# Altium schematic symbol library Napelem_Inverter.SchLib: 99 symbols (part 1 of 2)
Pins are listed as number, name and electrical type; pins without a type are passive.

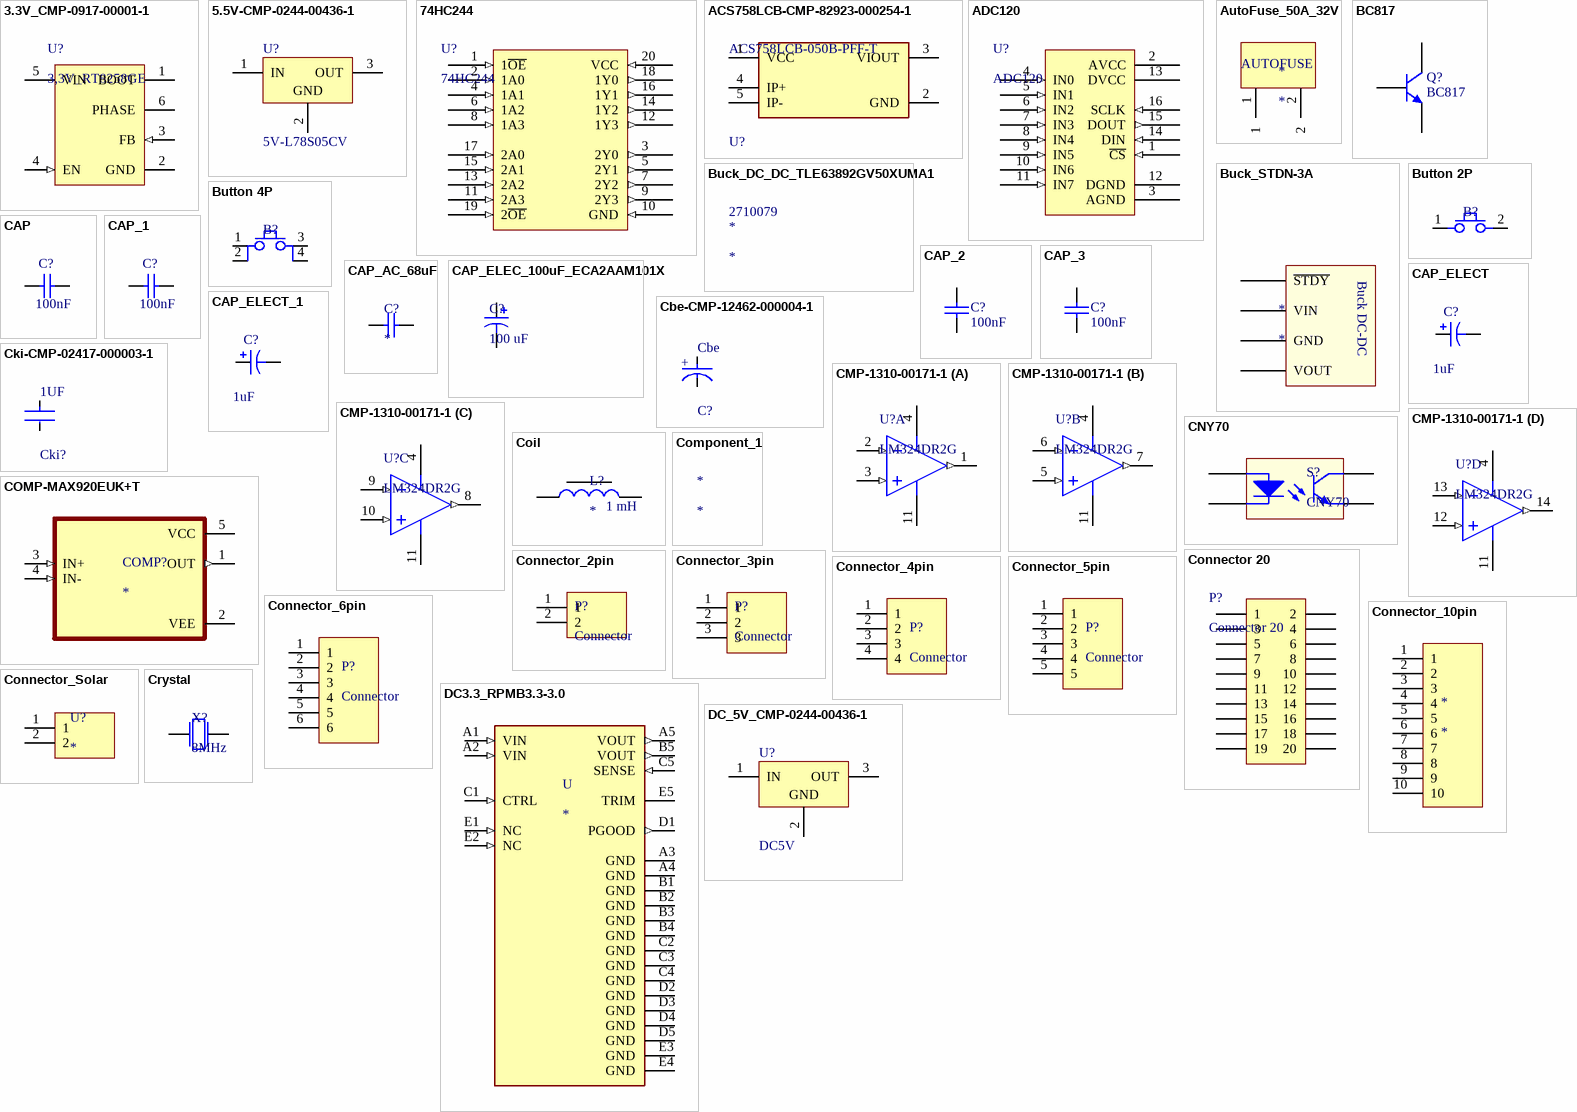
[diagram p0: symbols 3.3V_CMP-0917-00001-1 to DC_5V_CMP-0244-00436-1]

## 3.3V_CMP-0917-00001-1
designator U?, comment 3,3V_RT8258GE
1.2 A, 24 V, 700 kHz Step-Down Converter, -40 to 85 degC, 6-Pin SOT-23, RoHS; Manufacturer: Richtek Technology; Output Current: 1.2 A; Wide Operating Input Voltage Range: 4.5 to 24 V; Switch on Resistance: 0.3 Ohm; Fixed Switching Frequency: 700 kHz; Adjustable Output Voltage Range: 0.8 to 15 V; PackageReference: SOT-23-6; PartNumber: RT8258GE; PackageDescription: 6-Pin Small Outline Transistor, Body 2.8955 x 1.6 mm, Pitch 0.9395 mm; ComponentLink2URL: http://www.richtek.com/download_ds.jsp?s=420; ComponentLink1URL: http://www.richtek.com/; Mounting Technology: Surface Mount; RoHS: TRUE; ComponentLink1Description: Manufacturer URL; DatasheetVersion: Dec-11; Temperature Range: -40 to 85 degC; ComponentLink2Description: Datasheet
footprint RCHT-SOT-23-6_N (SOT23, 6-Leads, Body 3.1x1.8mm, Pitch 0.95mm, IPC Medium Density)
pins: 1 BOOT "Gate Driver Bootstrap Input Pin. Connect a 10nF or greater capacitor between PHASE and BOOT pins to supply the MOSFET driver.", 2 GND (power) "Ground Pin. This pin should be connected to the (-) terminal of the output capacitor and it should be kept away from the D1 and input capacitor for noise prevention.", 3 FB (in) "Output Voltage Feedback Input Pin. An external resistor divider from the output to GND tapped to the FB pin sets the output voltage. The value of the divider resistors also set loop bandwidth.", 4 EN (in) "Chip Enable (Active High). If the EN pin is open, it will be pulled to high by internal circuit.", 5 VIN (power) "Power Supply Input Pin. Bypass VIN to GND with a suitable large capacitor to prevent large voltage spikes from appearing at the input.", 6 PHASE (power) "Power Switching Output Pin. Connect this pin to the output inductor."

## 5.5V-CMP-0244-00436-1
designator U?, comment 5V-L78S05CV
2A Positive Voltage Regulator, 5V, 3-Pin TO-220; PackageVersion: ver3.0; ComponentLink2URL: http://www.st.com/internet/com/TECHNICAL_RESOURCES/TECHNICAL_LITERATURE/DATASHEET/CD00000449.pdf; ComponentLink1Description: Manufacturer URL; DatasheetVersion: 1/03/2010; PackageDescription: TO, Thru-Hole, Vertical, Heatsink Mounted; 3 In-Line Leads; Pitch 2.54 mm; ComponentLink2Description: Datasheet; ComponentLink1URL: http://www.st.com; ComponentLink3Description: Package Specification; PackageReference: TO220; ComponentLink3URL: http://www.st.com/internet/com/TECHNICAL_RESOURCES/TECHNICAL_LITERATURE/PACKAGE_INFORMATION/CD00004649.pdf
footprint TO220 (TO, Thru-Hole, Vertical, Heatsink Mounted; 3 In-Line Leads; Pitch 2.54 mm)
pins: 1 IN (power), 2 GND (power), 3 OUT (power)

## 74HC244
designator U?
Supplier: *; Reference: *; Name: *
footprint TSOP65P640X110-20N (TSOP, 20-Leads, Body 6,50x4,40mm, Pitch 0,65mm, IPC Medium Density)
pins: 1 1~{OE} (in), 2 1A0 (in), 3 2Y0 (out), 4 1A1 (in), 5 2Y1 (out), 6 1A2 (in), 7 2Y2 (out), 8 1A3 (in), 9 2Y3 (out), 10 GND (in), 11 2A3 (in), 12 1Y3 (out), 13 2A2 (in), 14 1Y2 (out), 15 2A1 (in), 16 1Y1 (out), 17 2A0 (in), 18 1Y0 (out), 19 2~{OE} (in), 20 VCC (in)

## ACS758LCB-CMP-82923-000254-1
designator U?, comment ACS758LCB-050B-PFF-T
SENSOR CURRENT HALL 50A AC/DC; Operating Supply Voltage: 5V; Max Supply Current: 13.5mA; Frequency: 120kHz; Quiescent Current: 10mA; Response Time: 4us; Sensitivity: 40mV/A; Output Current: 1mA; Linearity: 1%; Polarity: Bidirectional; Accuracy: 2%; Number of Channels: 1; Max Supply Voltage: 5.5V; Min Supply Voltage: 3V; Radiation Hardening: No; Packaging: Rail/Tube; Length: 10mm; Height: 7mm; Lead Free: Lead Free; Current Sensing: 50A; Number of Pins: 5; Min Operating Temperature: -40°C; RoHS Compliant: Yes; REACH SVHC: No SVHC; Max Operating Temperature: 150°C; Package Quantity: 34; Bandwidth: 120kHz; Mount: Through Hole; Width: 13mm; Series: -
footprint FP-CB-5-PFF-MFG
pins: 1 VCC (power), 2 GND (power), 3 VIOUT, 4 IP+, 5 IP-

## ADC120
designator U?
Supplier: *; Reference: *; Name: *
footprint TSOP65P640X120-16N (TSOP, 16-Leads, Body 5,00x4,40mm, Pitch 0,65mm, IPC Medium Density)
pins: 1 ~{CS} (in), 2 AVCC (power), 3 AGND (power), 4 IN0 (in), 5 IN1 (in), 6 IN2 (in), 7 IN3 (in), 8 IN4 (in), 9 IN5 (in), 10 IN6 (in), 11 IN7 (in), 12 DGND (power), 13 DVCC (power), 14 DIN (in), 15 DOUT (out), 16 SCLK (in)

## AutoFuse_50A_32V
designator *
Fuse Blade 1A 32V Socket 19.1 X 12.3 X 5.1mm Polyamide 66 Automotive UL; Manufacturer: Littelfuse; Manufacturer Part Number: 0287001.PXCN; Resistance: 123mR; Supplier 1: Digi-Key; Category: Fuses; Stock 1: 3381; Pricing 1: 1=0,29000, 5=0,28600, 10=0,27300, 50=0,24360, 100=0,22680, 250=0,20160, 500=0,16800, 1000=0,15960, 5000=0,12600 (USD); Mount: Holder; Number of Pins: 2; Color: Black; Housing Material: Polyamide; Min Operating Temperature: -40°C; Max Operating Temperature: 105°C; Current Rating: 1A; Package Quantity: 2000; Voltage Rating (DC): 32V; Packaging: Bulk; Voltage Rating: 32V; DC Cold Resistance: 123mR; Working Voltage: 32V; Fuse Current: 1A; Fuse Type: Automotive; Termination: Blade; Series: ATO®; Length: 19.1mm; Width: 5.1mm; Height: 0.484inch; Depth: 5.1mm; Size: 12.19mm; Radiation Hardening: No; REACH SVHC: Unknown; Approvals: UL; Lead Free: Lead Free; RoHS Compliant: Yes; ComponentLink1URL: https://datasheet.ciiva.com/30471/0900766b8128f542-30471621.pdf?src-supplier=RSComponents; ComponentLink1Description: https://datasheet.ciiva.com/30471/0900766b8128f542-30471621.pdf?src-supplier=RSComponents; ComponentLink2URL: https://datasheet.ciiva.com/7634/1714708-7634630.pdf?src-supplier=Element14; ComponentLink2Description: https://datasheet.ciiva.com/7634/1714708-7634630.pdf?src-supplier=Element14; ComponentLink3URL: https://datasheet.ciiva.com/7494/littelfuse-fuse-287-atof-cn-7494741.pdf?src-supplier=Digi-Key; ComponentLink3Description: https://datasheet.ciiva.com/7494/littelfuse-fuse-287-atof-cn-7494741.pdf?src-supplier=Digi-Key; ComponentLink4URL: https://datasheet.ciiva.com/14623/70241921-14623129.pdf?src-supplier=Allied+Electronics; ComponentLink4Description: https://datasheet.ciiva.com/14623/70241921-14623129.pdf?src-supplier=Allied+Electronics; ComponentLink5URL: https://datasheet.ciiva.com/14171/ato258-with-257-marking-eng-tds-14171963.pdf?src-supplier=Distrelec; ComponentLink5Description: https://datasheet.ciiva.com/14171/ato258-with-257-marking-eng-tds-14171963.pdf?src-supplier=Distrelec; ComponentLink6URL: http://datasheet.octopart.com/0287001.PXCN-Littelfuse-datasheet-38225814.pdf?src-supplier=Allied+Electronics; ComponentLink6Description: http://datasheet.octopart.com/0287001.PXCN-Littelfuse-datasheet-38225814.pdf?src-supplier=Allied+Electronics; ComponentLink7URL: http://datasheet.octopart.com/0287001.PXCN-Littelfuse-datasheet-26530133.pdf?src-supplier=Future+Electronics; ComponentLink7Description: http://datasheet.octopart.com/0287001.PXCN-Littelfuse-datasheet-26530133.pdf?src-supplier=Future+Electronics; ComponentLink8URL: http://datasheet.octopart.com/0287001.PXCN-Littelfuse-datasheet-11519250.pdf?src-supplier=Newark; ComponentLink8Description: http://datasheet.octopart.com/0287001.PXCN-Littelfuse-datasheet-11519250.pdf?src-supplier=Newark; ComponentLink9URL: http://datasheet.octopart.com/0287001.PXCN-Littelfuse-datasheet-11544327.pdf?src-supplier=Future+Electronics; ComponentLink9Description: http://datasheet.octopart.com/0287001.PXCN-Littelfuse-datasheet-11544327.pdf?src-supplier=Future+Electronics; ComponentLink10URL: http://datasheet.octopart.com/0287001.PXCN-Littelfuse-datasheet-14220655.pdf?src-supplier=Future+Electronics; ComponentLink10Description: http://datasheet.octopart.com/0287001.PXCN-Littelfuse-datasheet-14220655.pdf?src-supplier=Future+Electronics; ComponentLink11URL: http://datasheet.octopart.com/0287001.PXCN-Littelfuse-datasheet-17579844.pdf?src-supplier=TME; ComponentLink11Description: http://datasheet.octopart.com/0287001.PXCN-Littelfuse-datasheet-17579844.pdf?src-supplier=TME; ComponentLink12URL: http://datasheet.octopart.com/0287001.PXCN-Littelfuse-datasheet-20867603.pdf?src-supplier=Allied+Electronics; ComponentLink12Description: http://datasheet.octopart.com/0287001.PXCN-Littelfuse-datasheet-20867603.pdf?src-supplier=Allied+Electronics; ComponentLink13URL: http://datasheet.octopart.com/0287001.PXCN-Littelfuse-datasheet-127280206.pdf?src-supplier=Upverter; ComponentLink13Description: http://datasheet.octopart.com/0287001.PXCN-Littelfuse-datasheet-127280206.pdf?src-supplier=Upverter
pins: 1, 2
text: AUTOFUSE

## BC817
designator Q?
NPN General-purpose Transistor; ComponentLink1Description: Manufacturer Link; ComponentLink1URL: http://www.semiconductors.philips.com/; ComponentLink2Description: Datasheet; ComponentLink2URL: http://www.semiconductors.philips.com/acrobat/datasheets/BC817_BC817W_BC337_5.pdf
footprint FP_SOT23-3 (SOT23-3 tok)
pins: 1 B, 2 E, 3 C

## Buck_DC_DC_TLE63892GV50XUMA1
designator *  Supplier Part Number 1: 2710079
DC DC Cntrlr Single-OUT Step Down 5V to 60V Input Automotive 14-Pin DSO; Manufacturer: Infineon; Manufacturer Part Number: TLE63892GV50XUMA1; Number of Outputs: 1; Switching Frequency: 360kHz; Max Duty Cycle: 100%; Synchronous Rectifier: Yes; Tolerance: 3%; Watchdog Timer: No; Output Configuration: Positive; Output Voltage: 15V; Output Current: 2.3A; Max Frequency: 420kHz; Supplier 1: Farnell; RoHS: Yes; Category: Voltage Regulators - Switching; Stock 1: 490; Mount: Surface Mount; Case/Package: SOIC; Number of Pins: 14; Min Operating Temperature: -40°C; Max Operating Temperature: 150°C; Number of Output Phases: 1; Clock Sync: Yes; Packaging: Tape and Reel; Series: -; Package Quantity: 2500; Duty Cycle: 100%; Operating Supply Voltage: 60V; Radiation Hardening: No; Lead Free: Lead Free; Halogen Free: Halogen Free; RoHS Compliant: Yes; ComponentLink1URL: https://datasheet.ciiva.com/26891/tle6389-2g-v50-26891241.pdf?src-supplier=IIIC; ComponentLink1Description: https://datasheet.ciiva.com/26891/tle6389-2g-v50-26891241.pdf?src-supplier=IIIC; ComponentLink2URL: https://datasheet.ciiva.com/2022/infineon-tle6389-ds-v02-01-en-2022380.pdf?src-supplier=Digi-Key; ComponentLink2Description: https://datasheet.ciiva.com/2022/infineon-tle6389-ds-v02-01-en-2022380.pdf?src-supplier=Digi-Key

## Buck_STDN-3A
designator *
footprint Buck_STDN-3A24-ADJ
pins: 1 ~{STDY}, 2 VIN, 3 GND, 4 VOUT
text: Buck DC-DC

## Button 2P
designator B?, comment Button  (value not drawn)
Push button
footprint FP_BTN_SMD_3x6 (TACT 3x 6 2P)
pins: 1, 2

## Button 4P
designator B?, comment Button  (value not drawn)
Push button
footprint FP_BTN_SMD (SMD Push Button 6x6mm)
pins: 1, 2, 3, 4

## CAP
designator C?, comment 100nF
Capacitor; Value: 100nF
footprint FP_0402_CAP_050 (0.5mm magas 0402 kapacitás)
footprint FP_0603_CAP_080 (0.8mm magas 0603 kapacitás)
footprint FP_0805_CAP_085 (0805 kapacitás YAGEO 0.85mm magas)
footprint FP_1206_CAP_125 (1206 kapacitás 1.25 mm)
pins: 1, 2

## CAP_1
designator C?, comment 100nF
Capacitor; Value: 100nF
footprint FP_0603_CAP_080 (0.8mm magas 0603 kapacitás)
footprint FP_0805_CAP_085 (0805 kapacitás YAGEO 0.85mm magas)
footprint FP_1206_CAP_125 (1206 kapacitás 1.25 mm)
pins: 1, 2

## CAP_2
designator C?, comment 100nF
Capacitor; Value: 100nF
footprint FP_0603_CAP_080 (0.8mm magas 0603 kapacitás)
footprint FP_0805_CAP_085 (0805 kapacitás YAGEO 0.85mm magas)
footprint FP_1206_CAP_125 (1206 kapacitás 1.25 mm)
pins: 1, 2

## CAP_3
designator C?, comment 100nF
Capacitor; Value: 100nF
footprint FP_0603_CAP_080 (0.8mm magas 0603 kapacitás)
footprint FP_0805_CAP_085 (0805 kapacitás YAGEO 0.85mm magas)
footprint FP_1206_CAP_125 (1206 kapacitás 1.25 mm)
pins: 1, 2

## CAP_AC_68uF
designator C?
Cap Film 68uF 100V PET 10% (31.5 X 22 X 36.5mm) Radial 27.5mm 125C Bulk; Manufacturer: TDK EPCOS; Manufacturer Part Number: B32524Q1686K000; Dielectric Material: Polyester; Lead Diameter: 0.8mm; Supplier 1: Digi-Key; RoHS: Yes; Category: Film Capacitors; Stock 1: 15; Pricing 1: 1=16,57000, 10=15,74200, 50=13,25680, 100=12,42830, 500=11,01972, 1000=10,35688 (USD); Case/Package: Radial; Min Operating Temperature: -55°C; Max Operating Temperature: 125°C; Capacitance: 68uF; Tolerance: 10%; Packaging: Bulk; Dielectric: PET; Voltage Rating (DC): 100V; Voltage Rating: 100V; Length: 31.5mm; Lead Pitch: 27.5mm; Depth: 22mm; REACH SVHC: No SVHC; RoHS Compliant: Yes; ComponentLink1URL: http://www.farnell.com/datasheets/1955213.pdf?src-supplier=Farnell; ComponentLink1Description: http://www.farnell.com/datasheets/1955213.pdf?src-supplier=Farnell; ComponentLink2URL: http://components.arrow.com/part/dataview/0323_01924821?src-supplier=Arrow+Europe; ComponentLink2Description: http://components.arrow.com/part/dataview/0323_01924821?src-supplier=Arrow+Europe; ComponentLink3URL: https://www.tdk-electronics.tdk.com/inf/20/20/db/fc_2009/B32520_529.pdf?src-supplier=Digi-Key; ComponentLink3Description: https://www.tdk-electronics.tdk.com/inf/20/20/db/fc_2009/B32520_529.pdf?src-supplier=Digi-Key; ComponentLink4URL: http://www.farnell.com/datasheets/1955213.pdf?src-supplier=Element14; ComponentLink4Description: http://www.farnell.com/datasheets/1955213.pdf?src-supplier=Element14
footprint Capacitor_AC_68_uF
pins: 1, 2

## CAP_ELEC_100uF_ECA2AAM101X
designator C?, comment 100 uF
PANASONIC ELECTRONIC COMPONENTS         ECA2AAM101X             Electrolytic Capacitor, 100 F, 100 V, AM Series,  20%, Radial Leaded, 10 mm; Dielectric Material: Aluminium; Ripple Current (AC): 350mA; Voltage Rating (DC): 100V; Capacitance: 100uF; Life (Hours): 2000Hour; Supplier 1: RSComponents; Manufacturer: Panasonic; Manufacturer Part Number: ECA2AAM101X; RoHS: Yes; Category: Aluminum Electrolytic Capacitors; Stock 1: 1440; Case/Package: Radial; Number of Pins: 2; Min Operating Temperature: -40°C; Max Operating Temperature: 85°C; Tolerance: 20%; Voltage Rating: 100V; Ripple Current: 350mA; Voltage: 100V; Termination: Radial; Diameter: 10mm; Height: 16mm; Lead Pitch: 5mm; REACH SVHC: No SVHC; ComponentLink1URL: https://datasheet.ciiva.com/6001/1700589-6001627.pdf?src-supplier=Farnell; ComponentLink1Description: https://datasheet.ciiva.com/6001/1700589-6001627.pdf?src-supplier=Farnell
pins: N, P

## CAP_ELECT
designator C?, comment 1uF
Polarized Capacitor; Value: 1uF
footprint FP_3528 (3528 TANTÁL SMD "B"-TOK)
footprint FP_6032
footprint FP_7343
pins: N, P
1 alternate drawing of the same symbol

## CAP_ELECT_1
designator C?, comment 1uF
Polarized Capacitor; Value: 1uF
footprint FP_3528 (3528 TANTÁL SMD "B"-TOK)
footprint FP_6032
footprint FP_7343
pins: N, P
1 alternate drawing of the same symbol

## Cbe-CMP-12462-000004-1
designator C?, comment Cbe
CAP ALUM 100UF 20% 100V RADIAL / UBX2A101MHL; Manufacturer: Nichicon; Material: Aluminum; Automotive Grade: Grade 0; Ripple Current: 950mA; Leakage Current: 300uA; Life: 1000Hours; Dissipation Factor: 8%; Digikey Description: CAP ALUM 100UF 20% 100V RADIAL; Ipc Land Pattern Name: CAPRD500W75D1300H2650; Value: 100uF; Device Class L3: Aluminum Electrolytic Capacitors; Temperature Range Low: -55°C; Automotive: Yes; Lead Free: Yes; Package: 0; Voltage Rating: 100V; ComponentLink2URL: https://products.nichicon.co.jp/en/pdf/XJA043/e-ubx.pdf; Category: Cap; Device Class L2: Capacitors; Height: 26.5mm; Tolerance: 20%; Temperature Range High: +150°C; Octopart: https://octopart.com/ubx2a101mhl-nichicon-19783083; RoHS: TRUE; Device Class L1: Passive Components; Capacitance: 100uF; ComponentLink2Description: Datasheet; Manufacturer Part Number: UBX2A101MHL; Temperature: -55°C to +150°C
footprint FP-UBX2A101MHL-MFG
pins: 1 C, 2 A
text: +

## Cki-CMP-02417-000003-1
designator Cki?, comment 1UF
CAP CER 1UF 50V Y5V RADIAL / K105Z20Y5VF5TL2; Manufacturer: Vishay BC Components; Tolerance: -20+80%; Capacitance: 1uF; Temperature Characteristic: Y5V; Mouser Description: Multilayer Ceramic Capacitors MLCC - Leaded 1uF 50volts +80/-20% Y5V 2.5mm LS; Lead Free: Yes; RoHS: TRUE; Voltage Rating: 50V; Device Class L1: Passive Components; Octopart: https://octopart.com/k105z20y5vf5tl2-vishay-39475252; Temperature Range Low: -30°C; Digikey Description: CAP CER 1UF 50V Y5V RADIAL; Material: Ceramic; Manufacturer Part Number: K105Z20Y5VF5TL2; Device Class L2: Capacitors; Temperature: -30°C to +85°C; Package: K105Z20Y5VF5TL2; Temperature Range High: +85°C; ComponentLink2Description: Datasheet; Value: 1uF; Category: Cap; Height: 6.6mm; ComponentLink2URL: https://www.vishay.com/docs/45171/kseries.pdf; Device Class L3: Ceramic Capacitors; Automotive: No
footprint FP-K105Z20Y5VF5TL2-MFG
pins: 1, 2

## CMP-1310-00171-1
designator U?, comment LM324DR2G
Single Supply Quad Operational Amplifier, 3 to 32 V, 0 to 70 degC, 14-Pin SOIC, Pb-Free, Tape and Reel; Manufacturer: On Semiconductor; VCC Max (V): 32; VCC Min (V): 3; PackageVersion: Rev. K, 05/2011; ComponentLink3URL: http://www.onsemi.com/pub_link/Collateral/751A-03.PDF; ComponentLink3Description: Package Specification; Packing: Tape and Reel; ComponentLink2URL: http://www.onsemi.cn/pub_link/Collateral/LM324-D.PDF; PackageReference: SOIC-14-751A-03; ComponentLink1URL: http://www.onsemi.com/; PackageDescription: 14-Pin Small Outline Integrated Circuit, Body 8.65 x 3.9 mm, Pitch 1.27 mm; ComponentLink1Description: Manufacturer URL; DatasheetVersion: Rev. 25; Mounting Technology: Surface Mount; RoHS: TRUE; ComponentLink2Description: Datasheet; PartNumber: LM324DR2G
footprint ONSC-SOIC-14-751A-03_V (SOIC, 14-Leads, Body 8.75x4mm, Pitch 1.27mm)
pins on every part: 4 VCC (power), 11 VEE/GND (power)
part A pins: 1 OUT1 (out), 2 IN1- (in), 3 IN1+ (in)
part B pins: 5 IN2+ (in), 6 IN2- (in), 7 OUT2 (out)
part C pins: 8 OUT3 (out), 9 IN3- (in), 10 IN3+ (in)
part D pins: 12 IN4+ (in), 13 IN4- (in), 14 OUT4 (out)

## CNY70
designator S?
Reflective Optical Sensor
footprint CNY70; pin to pad 1>A 2>K 3>C 4>E
pins: 1 A, 2 K, 3 C, 4 E

## Coil
designator L?  value 1 mH
1.7 mH inductor; Category: Inductor
pins: 1 In, 2 Out

## COMP-MAX920EUK+T
designator COMP?
MAX920 Series 5.5 V 1 nA SMT Single General Purpose Comparator - SOT-23-5; MF: Maxim Integrated; MP: MAX920EUK+T; SnapEDA_Link: https://www.snapeda.com/parts/MAX920EUK+T/Maxim%20Integrated/view-part/1229989/?ref=snap; Price: None; Package: SOT-23-5 Maxim; Value: *; Availability: Unavailable
footprint SOT95P280X145-5N
pins: 1 OUT (out), 2 VEE (power), 3 IN+ (in), 4 IN- (in), 5 VCC (power)

## Component_1
designator *

## Connector 20
designator P?
Ribbon cable connector; Reference: *; Supplier: *; Name: *
footprint CONNECTOR-20P (Right angle ribbon cable connector)
pins: 1, 2, 3, 4, 5, 6, 7, 8, 9, 10, 11, 12, 13, 14, 15, 16, 17, 18, 19, 20

## Connector_2pin
designator P?, comment Connector
2pin connector
footprint FP_CONN2_TAP_254MM (álló két pólusú tápcsatlakozó 2.54mm)
footprint FP_CONN2_TAP_254MM_90 (fekvő két pólusú tápcsatlakozó 2.54mm)
footprint FP_CONN2_SORK_3.81MM (SORKAPOCS 2 P RM3.81)
footprint FP_CONN2_2MM_90 (fekvő 2 pólusú csatlakozó 2mm)
footprint FP_CONN2_2MM_180 (álló 2 pólusú csatlakozó 2mm)
footprint FP_CONN2_TUSKE_254MM (2×1 tüskesor)
pins: 1, 2

## Connector_3pin
designator P?, comment Connector
3pin connector
footprint FP_CONN3_TAP_254MM_90 (fekvő három pólusú tápcsatlakozó 2.54mm)
footprint FP_CONN3_TAP_254MM (álló három pólusú tápcsatlakozó 2.54mm)
footprint FP_CONN3_2MM_90 (fekvő 3 pólusú csatlakozó 2mm)
footprint FP_CONN3_TUSKE_254MM (3×1 tüskesor)
pins: 1, 2, 3

## Connector_4pin
designator P?, comment Connector
4pin Connector
footprint FP_CONN4_TAP_254MM_90 (fekvő két pólusú tápcsatlakozó 2.54mm)
footprint FP_CONN4_TAP_254MM (álló két pólusú tápcsatlakozó 2.54mm)
footprint FP_CONN4_2MM_90 (fekvő 6 pólusú csatlakozó 2mm)
footprint FP_CONN4_2MM_180 (álló 4 pólusú csatlakozó 2mm)
pins: 1, 2, 3, 4

## Connector_5pin
designator P?, comment Connector
5pin Connector
footprint FP_CONN5_TAP_254MM_90 (fekvő öt pólusú tápcsatlakozó 2.54mm)
footprint FP_CONN5_TAP_254MM (álló öt pólusú tápcsatlakozó 2.54mm)
footprint FP_CONN5_2MM_90 (fekvő 5 pólusú csatlakozó 2mm)
pins: 1, 2, 3, 4, 5

## Connector_6pin
designator P?, comment Connector
6pin connector
footprint FP_CONN6_TAP_254MM_90 (fekvő hat pólusú tápcsatlakozó 2.54mm)
footprint FP_CONN6_TAP_254MM (álló hat pólusú tápcsatlakozó 2.54mm)
footprint FP_CONN6_2MM_90 (fekvő 6 pólusú csatlakozó 2mm)
footprint FP_CONN6_2MM_180 (álló 6 pólusú csatlakozó 2mm)
pins: 1, 2, 3, 4, 5, 6

## Connector_10pin
designator *
pins: 1, 2, 3, 4, 5, 6, 7, 8, 9, 10

## Connector_Solar
designator U?
pins: 1, 2

## Crystal
designator X?, comment 8MHz
Quarz Crystal; Value: 8MHz
footprint FP_CRYSTAL_HC49_SMD (HC49/SMD)
footprint FP_CRYSTAL_HC49 (HC49)
pins: 1, 2

## DC3.3_RPMB3.3-3.0
designator U
Non-Isolated PoL Module DC DC Converter 1 Output 3.3V 3A 4V - 36V Input; MP: RPMB3.3-3.0; MF: Recom Power; Value: *; SnapEDA_Link: https://www.snapeda.com/parts/RPMB3.3-3.0/Recom%20Power/view-part/4614067/?ref=snap; Price: None; Package: BLGA-25 Recom Power; Availability: Unavailable
footprint LGA25S229P5X5_1219X1219X400
pins: A1 VIN (in), A2 VIN (in), A3 GND (power), A4 GND (power), A5 VOUT (out), B1 GND (power), B2 GND (power), B3 GND (power), B4 GND (power), B5 VOUT (out), C1 CTRL (in), C2 GND (power), C3 GND (power), C4 GND (power), C5 SENSE (in), D1 PGOOD (out), D2 GND (power), D3 GND (power), D4 GND (power), D5 GND (power), E1 NC (in), E2 NC (in), E3 GND (power), E4 GND (power), E5 TRIM

## DC_5V_CMP-0244-00436-1
designator U?, comment DC5V
2A Positive Voltage Regulator, 5V, 3-Pin TO-220 / L78S05CV; PackageVersion: ver3.0; ComponentLink2URL: http://www.st.com/internet/com/TECHNICAL_RESOURCES/TECHNICAL_LITERATURE/DATASHEET/CD00000449.pdf; ComponentLink1Description: Manufacturer URL; DatasheetVersion: 1/03/2010; PackageDescription: TO, Thru-Hole, Vertical, Heatsink Mounted; 3 In-Line Leads; Pitch 2.54 mm; ComponentLink2Description: Datasheet; ComponentLink1URL: http://www.st.com; ComponentLink3Description: Package Specification; PackageReference: TO220; ComponentLink3URL: http://www.st.com/internet/com/TECHNICAL_RESOURCES/TECHNICAL_LITERATURE/PACKAGE_INFORMATION/CD00004649.pdf
footprint TO220 (TO, Thru-Hole, Vertical, Heatsink Mounted; 3 In-Line Leads; Pitch 2.54 mm)
pins: 1 IN (power), 2 GND (power), 3 OUT (power)

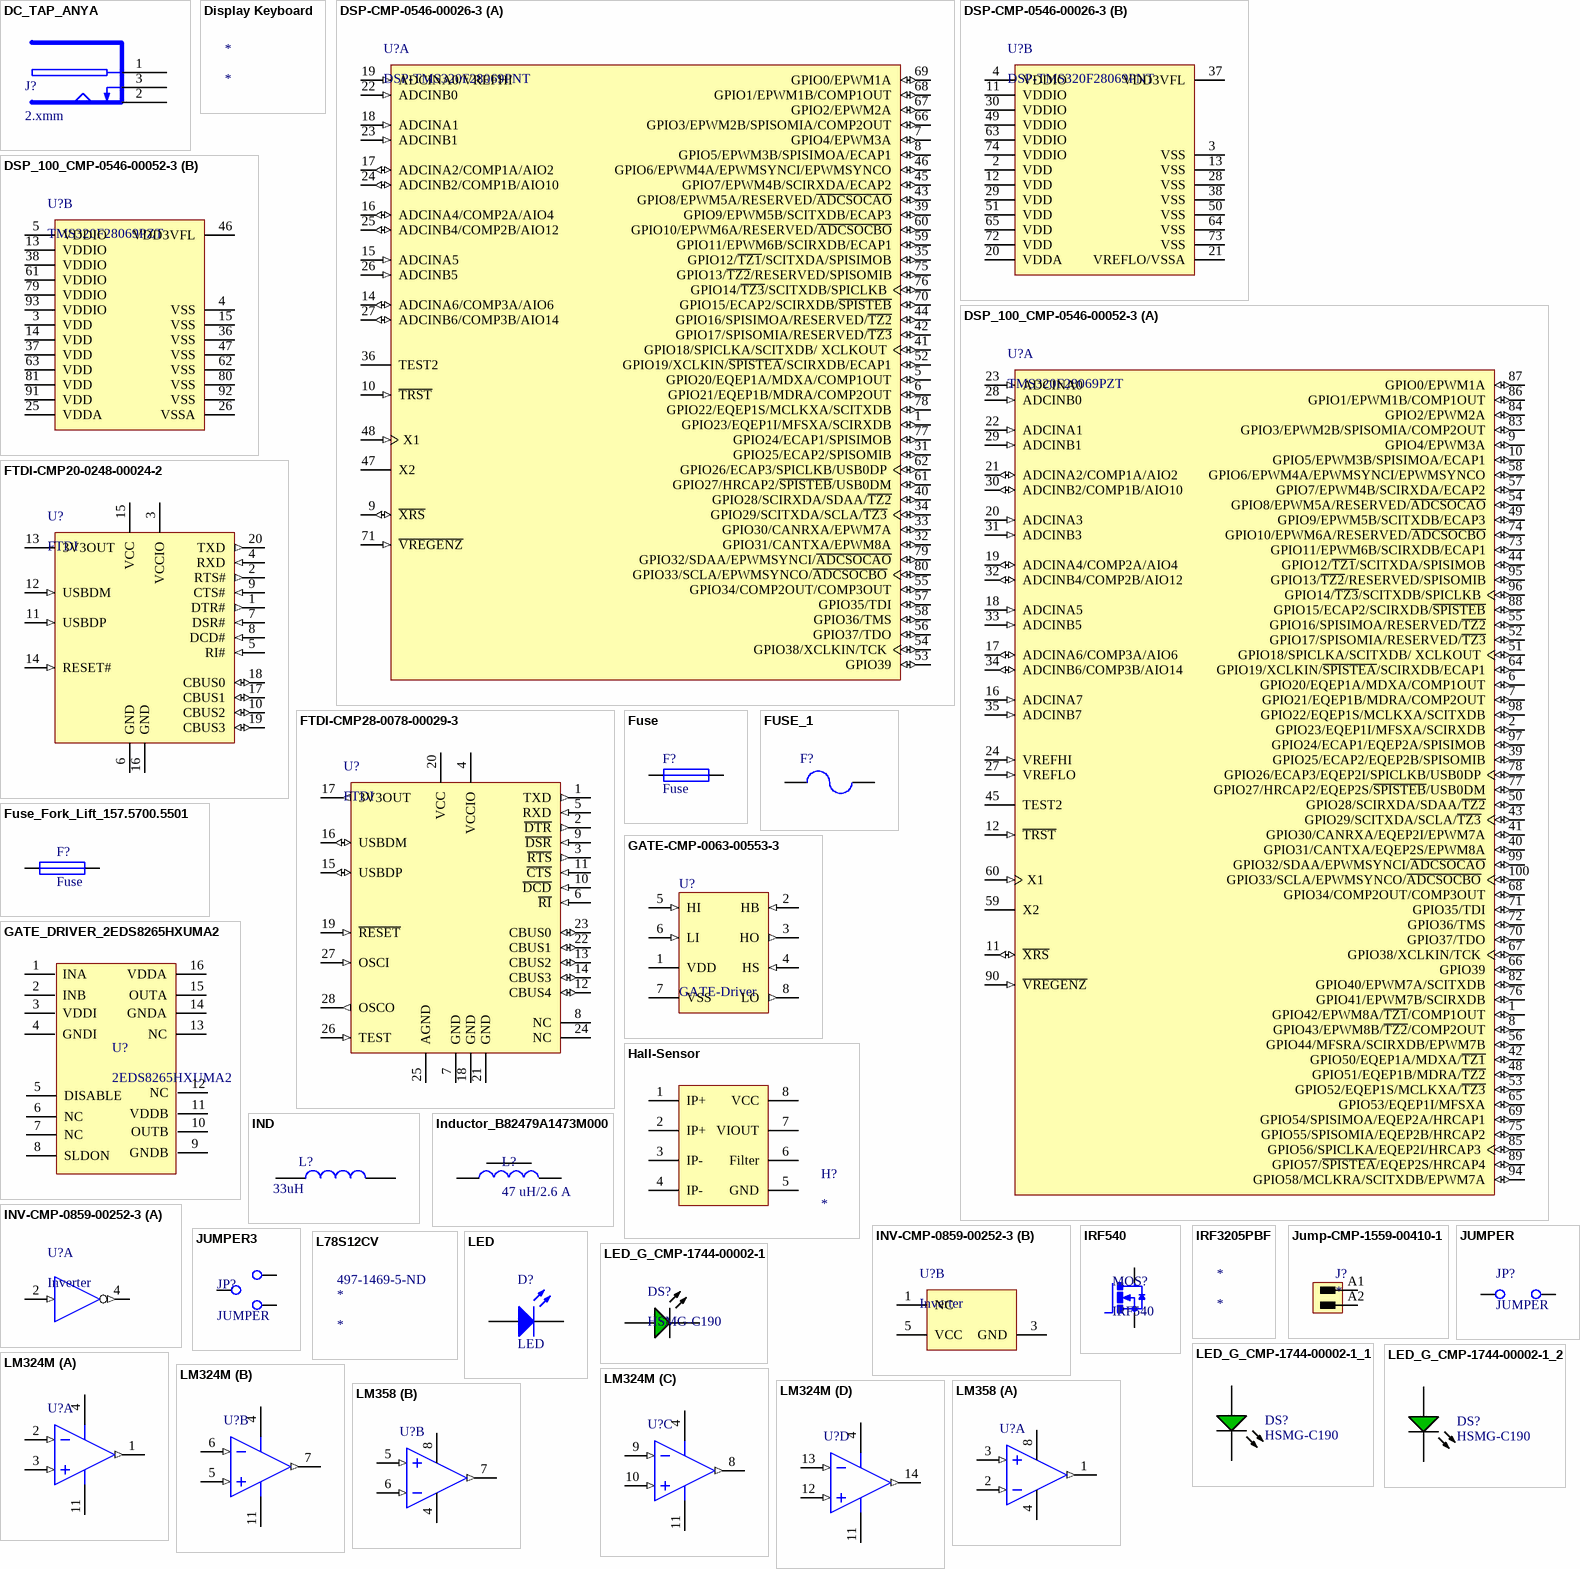
[diagram p1: symbols DC_TAP_ANYA to LM358]

## DC_TAP_ANYA
designator J?, comment 2.xmm
2.xmm DC HEBA25 TÁPFESZÜLTSÉG ALJZAT ZÁRT, NYÁKBA 90°; Name: TÁP DC ANYA 5.5/2.1/9.5mm DCS-5521-5; Supplier: Lomex; Reference: 43-07-67
footprint FP_DC_TAP_ANYA (DC HEBA25 TÁPFESZÜLTSÉG ALJZAT ZÁRT, NYÁKBA 90°)
pins: 1 PIN (power), 2 SLEEVE (power), 3 BREAK (power)

## Display Keyboard
designator *

## DSP-CMP-0546-00026-3
designator U?, comment DSP-TMS320F28069PNT
Piccolo Microcontroller, High-Efficiency 32-Bit CPU, 100 KB, 90 MHz, FPU, VCU, 17 Ch PWM, 40 GPIO, 3.3 V, -40 to 105 degC, 80-Pin LQFP (PN), Green (RoHS & no Sb/Br); Manufacturer: Texas Instruments; CPU: C28x; Timers: 3 32-Bit GP 1 WD; IO Supply (V): 3.3; VCU: Yes; RAM (KB): 100; CAP/QEP: 4/1; CLA: 1; GPIO: 40; USB: 0; Frequency (MHz): 90; 12-bit A/D (#Channels): 14; PWM (Ch): 17; ComponentLink1Description: Manufacturer URL; PackageDescription: 80-Pin Plastic Quad Flat Package, Body 12 x 12 mm, Pitch 0.5 mm; DatasheetVersion: SPRS698D; ComponentLink3Description: Package Specification; Eco Plan: Green (RoHS & no Sb/Br); Mounting Technology: Surface Mount; PartNumber: TMS320F28069PNT; PackageReference: PN0080A; ComponentLink2Description: Datasheet; PackageVersion: 4040135/B; ComponentLink1URL: http://www.ti.com/; FPU: Yes; ComponentLink3URL: http://www.ti.com/lit/ds/symlink/tms320f28066.pdf; ComponentLink2URL: http://www.ti.com/lit/ds/symlink/tms320f28069.pdf; Peak MMACS: 90; Operating Temperature Range (degC): -40 to 105
footprint PN0080A_M (QFP, 80-Leads, Body 12x12mm, Pitch 0.5mm, IPC Low Density)
part A pins: 1 GPIO23/EQEP1I/MFSXA/SCIRXDB (io), 5 GPIO20/EQEP1A/MDXA/COMP1OUT (io), 6 GPIO21/EQEP1B/MDRA/COMP2OUT (io), 7 GPIO4/EPWM3A (io), 8 GPIO5/EPWM3B/SPISIMOA/ECAP1 (io), 9 ~{XRS} (io) "Device Reset (in) and Watchdog Reset (out). Piccolo devices have a built-in power-onreset (POR) and brown-out-reset (BOR) circuitry. As such, no external circuitry is needed to generate a reset pulse. [see datasheet]", 10 ~{TRST} (in) "JTAG test reset with internal pulldown. T\R\S\T\, when driven high, gives the scan system control of the operations of the device. If this signal is not connected or driven low, the device operates in its functional mode", 14 ADCINA6/COMP3A/AIO6 (io), 15 ADCINA5 (in) "ADC Group A, Channel 5 input", 16 ADCINA4/COMP2A/AIO4 (io), 17 ADCINA2/COMP1A/AIO2 (io), 18 ADCINA1 (in) "ADC Group A, Channel 1 input", 19 ADCINA0/VREFHI (in), 22 ADCINB0 (in) "ADC Group B, Channel 0 input", 23 ADCINB1 (in) "ADC Group B, Channel 1 input", 24 ADCINB2/COMP1B/AIO10 (io), 25 ADCINB4/COMP2B/AIO12 (io), 26 ADCINB5 (in) "ADC Group B, Channel 5 input", 27 ADCINB6/COMP3B/AIO14 (io), 31 GPIO25/ECAP2/SPISOMIB (io), 32 GPIO31/CANTXA/EPWM8A (io), 33 GPIO30/CANRXA/EPWM7A (io), 34 GPIO29/SCITXDA/SCLA/~{TZ3} (io), 35 GPIO12/~{TZ1}/SCITXDA/SPISIMOB (io), 36 TEST2 "Test Pin. Reserved for TI. Must be left unconnected.", 39 GPIO9/EPWM5B/SCITXDB/ECAP3 (io), 40 GPIO28/SCIRXDA/SDAA/~{TZ2} (io), 41 GPIO18/SPICLKA/SCITXDB/ XCLKOUT (io), 42 GPIO17/SPISOMIA/RESERVED/~{TZ3} (io), 43 GPIO8/EPWM5A/RESERVED/~{ADCSOCAO} (io), 44 GPIO16/SPISIMOA/RESERVED/~{TZ2} (io), 45 GPIO7/EPWM4B/SCIRXDA/ECAP2 (io), 46 GPIO6/EPWM4A/EPWMSYNCI/EPWMSYNCO (io), 47 X2 "On-chip crystal-oscillator output. A quartz crystal or a ceramic resonator must be connected across X1 and X2. If X2 is not used, it must be left unconnected.", 48 X1 (in) "On-chip crystal-oscillator input. To use this oscillator, a quartz crystal or a ceramic resonator must be connected across X1 and X2. In this case, the XCLKIN path must be disabled by bit 13 in the CLKCTL register.", 52 GPIO19/XCLKIN/~{SPISTEA}/SCIRXDB/ECAP1 (io), 53 GPIO39 (io) "General-purpose input/output 39", 54 GPIO38/XCLKIN/TCK (io), 55 GPIO34/COMP2OUT/COMP3OUT (io), 56 GPIO37/TDO (io), 57 GPIO35/TDI (io), 58 GPIO36/TMS (io), 59 GPIO11/EPWM6B/SCIRXDB/ECAP1 (io), 60 GPIO10/EPWM6A/RESERVED/~{ADCSOCBO} (io), 61 GPIO27/HRCAP2/~{SPISTEB}/USB0DM (io), 62 GPIO26/ECAP3/SPICLKB/USB0DP (io), 66 GPIO3/EPWM2B/SPISOMIA/COMP2OUT (io), 67 GPIO2/EPWM2A (io), 68 GPIO1/EPWM1B/COMP1OUT (io), 69 GPIO0/EPWM1A (io), 70 GPIO15/ECAP2/SCIRXDB/~{SPISTEB} (io), 71 ~{VREGENZ} (in) "Internal VREG Enable/Disable. Pull low to enable VREG, pull high to disable VREG.", 75 GPIO13/~{TZ2}/RESERVED/SPISOMIB (io), 76 GPIO14/~{TZ3}/SCITXDB/SPICLKB (io), 77 GPIO24/ECAP1/SPISIMOB (io), 78 GPIO22/EQEP1S/MCLKXA/SCITXDB (io), 79 GPIO32/SDAA/EPWMSYNCI/~{ADCSOCAO} (io), 80 GPIO33/SCLA/EPWMSYNCO/~{ADCSOCBO} (io)
part B pins: 2 VDD (power) "CPU and Logic Digital Power Pins - no supply source needed when using internal VREG. Tie with 1.2 uF (minimum) ceramic capacitor (10% tolerance) to ground when using internal VREG. Higher value capacitors may be used, but could impact supplyrail ramp-up", 3 VSS (power) "Digital Ground Pins", 4 VDDIO (power) "Digital I/O and Flash Power Pin - Single Supply source when VREG is enabled.", 11 VDDIO (power) "Digital I/O and Flash Power Pin - Single Supply source when VREG is enabled.", 12 VDD (power) "CPU and Logic Digital Power Pins - no supply source needed when using internal VREG. Tie with 1.2 uF (minimum) ceramic capacitor (10% tolerance) to ground when using internal VREG. Higher value capacitors may be used, but could impact supplyrail ramp-up", 13 VSS (power) "Digital Ground Pins", 20 VDDA (power) "Analog Power Pin. Tie with a 2.2-uF capacitor (typical) close to the pin.", 21 VREFLO/VSSA (power) "NOTE: VREFLO is always connected to VSSA on the 80-pin PN and PFP devices.", 28 VSS (power) "Digital Ground Pins", 29 VDD (power) "CPU and Logic Digital Power Pins - no supply source needed when using internal VREG. Tie with 1.2 uF (minimum) ceramic capacitor (10% tolerance) to ground when using internal VREG. Higher value capacitors may be used, but could impact supplyrail ramp-up", 30 VDDIO (power) "Digital I/O and Flash Power Pin - Single Supply source when VREG is enabled.", 37 VDD3VFL (power) "3.3-V Flash Core Power Pin. This pin should be connected to 3.3 V at all times.", 38 VSS (power) "Digital Ground Pins", 49 VDDIO (power) "Digital I/O and Flash Power Pin - Single Supply source when VREG is enabled.", 50 VSS (power) "Digital Ground Pins", 51 VDD (power) "CPU and Logic Digital Power Pins - no supply source needed when using internal VREG. Tie with 1.2 uF (minimum) ceramic capacitor (10% tolerance) to ground when using internal VREG. Higher value capacitors may be used, but could impact supplyrail ramp-up", 63 VDDIO (power) "Digital I/O and Flash Power Pin - Single Supply source when VREG is enabled.", 64 VSS (power) "Digital Ground Pins", 65 VDD (power) "CPU and Logic Digital Power Pins - no supply source needed when using internal VREG. Tie with 1.2 uF (minimum) ceramic capacitor (10% tolerance) to ground when using internal VREG. Higher value capacitors may be used, but could impact supplyrail ramp-up", 72 VDD (power) "CPU and Logic Digital Power Pins - no supply source needed when using internal VREG. Tie with 1.2 uF (minimum) ceramic capacitor (10% tolerance) to ground when using internal VREG. Higher value capacitors may be used, but could impact supplyrail ramp-up", 73 VSS (power) "Digital Ground Pins", 74 VDDIO (power) "Digital I/O and Flash Power Pin - Single Supply source when VREG is enabled."

## DSP_100_CMP-0546-00052-3
designator U?, comment TMS320F28069PZT
Piccolo Microcontroller, High-Efficiency 32-Bit CPU, 100 KB, 90 MHz, FPU, VCU, 19 Ch PWM, 54 GPIO, 3.3 V, -40 to 105 degC, 100-Pin LQFP (PZ), Green (RoHS & no Sb/Br); Manufacturer: Texas Instruments; CAP/QEP: 7/2; Peak MMACS: 90; IO Supply (V): 3.3; 12-bit A/D (#Channels): 16; PWM (Ch): 19; CLA: 1; Timers: 3 32-Bit GP 1 WD; VCU: Yes; RAM (KB): 100; CPU: C28x; GPIO: 54; USB: 0; PackageVersion: 4040149/B; Operating Temperature Range (degC): -40 to 105; Mounting Technology: Surface Mount; ComponentLink2URL: http://www.ti.com/lit/ds/symlink/tms320f28069.pdf; DatasheetVersion: SPRS698D; PartNumber: TMS320F28069PZT; FPU: Yes; Frequency (MHz): 90; ComponentLink3Description: Package Specification; ComponentLink3URL: http://www.ti.com/lit/ds/symlink/tms320f28066.pdf; PackageDescription: 100-Pin Plastic Quad Flat Package, Body 14 x 14 mm, Pitch 0.5 mm; PackageReference: PZ0100A; ComponentLink1URL: http://www.ti.com/; ComponentLink2Description: Datasheet; ComponentLink1Description: Manufacturer URL; Eco Plan: Green (RoHS & no Sb/Br)
footprint PZ0100A_N (QFP,100-Leads, Body 14x14mm, Pitch 0.5mm, IPC Medium Density)
part A pins: 1 GPIO42/EPWM8A/~{TZ1}/COMP1OUT (io), 2 GPIO23/EQEP1I/MFSXA/SCIRXDB (io), 6 GPIO20/EQEP1A/MDXA/COMP1OUT (io), 7 GPIO21/EQEP1B/MDRA/COMP2OUT (io), 8 GPIO43/EPWM8B/~{TZ2}/COMP2OUT (io), 9 GPIO4/EPWM3A (io), 10 GPIO5/EPWM3B/SPISIMOA/ECAP1 (io), 11 ~{XRS} (io) "Device Reset (in) and Watchdog Reset (out). Piccolo devices have a built-in power-onreset (POR) and brown-out-reset (BOR) circuitry. As such, no external circuitry is needed to generate a reset pulse. [see datasheet]", 12 ~{TRST} (in) "JTAG test reset with internal pulldown. T\R\S\T\, when driven high, gives the scan system control of the operations of the device. If this signal is not connected or driven low, the device operates in its functional mode", 16 ADCINA7 (in) "ADC Group A, Channel 7 input", 17 ADCINA6/COMP3A/AIO6 (io), 18 ADCINA5 (in) "ADC Group A, Channel 5 input", 19 ADCINA4/COMP2A/AIO4 (io), 20 ADCINA3 (in) "ADC Group A, Channel 3 input", 21 ADCINA2/COMP1A/AIO2 (io), 22 ADCINA1 (in) "ADC Group A, Channel 1 input", 23 ADCINA0 (in) "ADC Group A, Channel 0 input.", 24 VREFHI (in) "ADC External Reference - only used when in ADC external reference mode.", 27 VREFLO (in), 28 ADCINB0 (in) "ADC Group B, Channel 0 input", 29 ADCINB1 (in) "ADC Group B, Channel 1 input", 30 ADCINB2/COMP1B/AIO10 (io), 31 ADCINB3 (in) "ADC Group B, Channel 3 input", 32 ADCINB4/COMP2B/AIO12 (io), 33 ADCINB5 (in) "ADC Group B, Channel 5 input", 34 ADCINB6/COMP3B/AIO14 (io), 35 ADCINB7 (in) "ADC Group B, Channel 7 input", 39 GPIO25/ECAP2/EQEP2B/SPISOMIB (io), 40 GPIO31/CANTXA/EQEP2S/EPWM8A (io), 41 GPIO30/CANRXA/EQEP2I/EPWM7A (io), 42 GPIO50/EQEP1A/MDXA/~{TZ1} (io), 43 GPIO29/SCITXDA/SCLA/~{TZ3} (io), 44 GPIO12/~{TZ1}/SCITXDA/SPISIMOB (io), 45 TEST2 "Test Pin. Reserved for TI. Must be left unconnected.", 48 GPIO51/EQEP1B/MDRA/~{TZ2} (io), 49 GPIO9/EPWM5B/SCITXDB/ECAP3 (io), 50 GPIO28/SCIRXDA/SDAA/~{TZ2} (io), 51 GPIO18/SPICLKA/SCITXDB/ XCLKOUT (io), 52 GPIO17/SPISOMIA/RESERVED/~{TZ3} (io), 53 GPIO52/EQEP1S/MCLKXA/~{TZ3} (io), 54 GPIO8/EPWM5A/RESERVED/~{ADCSOCAO} (io), 55 GPIO16/SPISIMOA/RESERVED/~{TZ2} (io), 56 GPIO44/MFSRA/SCIRXDB/EPWM7B (io), 57 GPIO7/EPWM4B/SCIRXDA/ECAP2 (io), 58 GPIO6/EPWM4A/EPWMSYNCI/EPWMSYNCO (io), 59 X2 "On-chip crystal-oscillator output. A quartz crystal or a ceramic resonator must be connected across X1 and X2. If X2 is not used, it must be left unconnected.", 60 X1 (in) "On-chip crystal-oscillator input. To use this oscillator, a quartz crystal or a ceramic resonator must be connected across X1 and X2. In this case, the XCLKIN path must be disabled by bit 13 in the CLKCTL register.", 64 GPIO19/XCLKIN/~{SPISTEA}/SCIRXDB/ECAP1 (io), 65 GPIO53/EQEP1I/MFSXA (io), 66 GPIO39 (io) "General-purpose input/output 39", 67 GPIO38/XCLKIN/TCK (io), 68 GPIO34/COMP2OUT/COMP3OUT (io), 69 GPIO54/SPISIMOA/EQEP2A/HRCAP1 (io), 70 GPIO37/TDO (io), 71 GPIO35/TDI (io), 72 GPIO36/TMS (io), 73 GPIO11/EPWM6B/SCIRXDB/ECAP1 (io), 74 GPIO10/EPWM6A/RESERVED/~{ADCSOCBO} (io), 75 GPIO55/SPISOMIA/EQEP2B/HRCAP2 (io), 76 GPIO41/EPWM7B/SCIRXDB (io), 77 GPIO27/HRCAP2/EQEP2S/~{SPISTEB}/USB0DM (io), 78 GPIO26/ECAP3/EQEP2I/SPICLKB/USB0DP (io), 82 GPIO40/EPWM7A/SCITXDB (io), 83 GPIO3/EPWM2B/SPISOMIA/COMP2OUT (io), 84 GPIO2/EPWM2A (io), 85 GPIO56/SPICLKA/EQEP2I/HRCAP3 (io), 86 GPIO1/EPWM1B/COMP1OUT (io), 87 GPIO0/EPWM1A (io), 88 GPIO15/ECAP2/SCIRXDB/~{SPISTEB} (io), 89 GPIO57/~{SPISTEA}/EQEP2S/HRCAP4 (io), 90 ~{VREGENZ} (in) "Internal VREG Enable/Disable. Pull low to enable VREG, pull high to disable VREG.", 94 GPIO58/MCLKRA/SCITXDB/EPWM7A (io), 95 GPIO13/~{TZ2}/RESERVED/SPISOMIB (io), 96 GPIO14/~{TZ3}/SCITXDB/SPICLKB (io), 97 GPIO24/ECAP1/EQEP2A/SPISIMOB (io), 98 GPIO22/EQEP1S/MCLKXA/SCITXDB (io), 99 GPIO32/SDAA/EPWMSYNCI/~{ADCSOCAO} (io), 100 GPIO33/SCLA/EPWMSYNCO/~{ADCSOCBO} (io)
part B pins: 3 VDD (power) "CPU and Logic Digital Power Pins - no supply source needed when using internal VREG. Tie with 1.2 uF (minimum) ceramic capacitor (10% tolerance) to ground when using internal VREG. Higher value capacitors may be used, but could impact supplyrail ramp-up", 4 VSS (power) "Digital Ground Pins", 5 VDDIO (power) "Digital I/O and Flash Power Pin - Single Supply source when VREG is enabled.", 13 VDDIO (power) "Digital I/O and Flash Power Pin - Single Supply source when VREG is enabled.", 14 VDD (power) "CPU and Logic Digital Power Pins - no supply source needed when using internal VREG. Tie with 1.2 uF (minimum) ceramic capacitor (10% tolerance) to ground when using internal VREG. Higher value capacitors may be used, but could impact supplyrail ramp-up", 15 VSS (power) "Digital Ground Pins", 25 VDDA (power) "Analog Power Pin. Tie with a 2.2-uF capacitor (typical) close to the pin.", 26 VSSA (power) "Analog Ground Pin.", 36 VSS (power) "Digital Ground Pins", 37 VDD (power) "CPU and Logic Digital Power Pins - no supply source needed when using internal VREG. Tie with 1.2 uF (minimum) ceramic capacitor (10% tolerance) to ground when using internal VREG. Higher value capacitors may be used, but could impact supplyrail ramp-up", 38 VDDIO (power) "Digital I/O and Flash Power Pin - Single Supply source when VREG is enabled.", 46 VDD3VFL (power) "3.3-V Flash Core Power Pin. This pin should be connected to 3.3 V at all times.", 47 VSS (power) "Digital Ground Pins", 61 VDDIO (power) "Digital I/O and Flash Power Pin - Single Supply source when VREG is enabled.", 62 VSS (power) "Digital Ground Pins", 63 VDD (power) "CPU and Logic Digital Power Pins - no supply source needed when using internal VREG. Tie with 1.2 uF (minimum) ceramic capacitor (10% tolerance) to ground when using internal VREG. Higher value capacitors may be used, but could impact supplyrail ramp-up", 79 VDDIO (power) "Digital I/O and Flash Power Pin - Single Supply source when VREG is enabled.", 80 VSS (power) "Digital Ground Pins", 81 VDD (power) "CPU and Logic Digital Power Pins - no supply source needed when using internal VREG. Tie with 1.2 uF (minimum) ceramic capacitor (10% tolerance) to ground when using internal VREG. Higher value capacitors may be used, but could impact supplyrail ramp-up", 91 VDD (power) "CPU and Logic Digital Power Pins - no supply source needed when using internal VREG. Tie with 1.2 uF (minimum) ceramic capacitor (10% tolerance) to ground when using internal VREG. Higher value capacitors may be used, but could impact supplyrail ramp-up", 92 VSS (power) "Digital Ground Pins", 93 VDDIO (power) "Digital I/O and Flash Power Pin - Single Supply source when VREG is enabled."

## FTDI-CMP20-0248-00024-2
designator U?, comment FTDI
USB to Full-Handshake UART Interface Chip, UHCI/OHCI/EHCI Compatible, USB 2.0 Compatible, -40 to +85 degC, 20-Pin SSOP, Pb-Free, Tape and Reel / FT231XS-R; PackageVersion: Feb-13; Manufacturer: FTDI; PackageReference: FTDI-SSOP-20; ComponentLink1Description: Manufacturer URL; ComponentLink2Description: Datasheet; PackageDescription: 20-Pin Small Outline Package, 8.6 x 3.9 mm Body, 0.635 mm Pitch; ComponentLink3URL: www.ftdichip.com/Products/ICs/FT231X.html; PartNumber: FT231XS-R; DatasheetVersion: ver 1.2, Feb-2013; ComponentLink2URL: http://www.ftdichip.com/Support/Documents/DataSheets/ICs/DS_FT231X.pdf; Code_JEDEC: MO-137-AD; ComponentLink3Description: FT231X Product Page; RevisionNote: DatasheetVersion updated to 1.2 Feb-2013; ComponentLink1URL: http://www.ftdichip.com/
footprint SSOP-20_N (SOP, 20-Leads, Body 8.6x3.9mm, Pitch 0.635mm, IPC Medium Density)
pins: 1 DTR# (out) "Data Terminal Ready Control Output / Handshake Signal.", 2 RTS# (out) "Request to Send Control Output / Handshake Signal.", 3 VCCIO (power) "1V8 -3V3 supply for the IO cells.", 4 RXD (in) "Receiving Asynchronous Data Input.", 5 RI# (in) "Ring Indicator input for remote wake up.", 6 GND (power) "0V Ground input.", 7 DSR# (in) "Data Set Ready Control Input / Handshake Signal.", 8 DCD# (in) "Data Carrier Detect Control Input.", 9 CTS# (in) "Clear To Send Control Input / Handshake Signal.", 10 CBUS2 (io) "Configurable CBUS I/O Pin. Function of this pin is configured in the device MTP memory. The default configuration is TXLED#.", 11 USBDP (in) "USB Data Signal Plus.", 12 USBDM (in) "USB Data Signal Minus.", 13 3V3OUT (power) "3V3 output at 50mA. May be used to power VCCIO. When VCC is 3V3, pin 13 is an input pin.", 14 RESET# (in) "Reset input (active low).", 15 VCC (power) "5 V (or 3V3) supply to IC.", 16 GND (power) "0V Ground input.", 17 CBUS1 (io) "Configurable CBUS I/O Pin. Function of this pin is configured in the device MTP memory. The default configuration is RXLED#.", 18 CBUS0 (io) "Configurable CBUS I/O Pin. Function of this pin is configured in the device MTP memory. The default configuration is TXDEN.", 19 CBUS3 (io) "Configurable CBUS I/O Pin. Function of this pin is configured in the device MTP memory. The default configuration is SLEEP#.", 20 TXD (out) "Transmit Asynchronous Data Output."

## FTDI-CMP28-0078-00029-3
designator U?, comment FTDI
USB UART Asynchronous Serial Data Transfer Chip, 28-pin SSOP, Tape and Reel; PartNumber: FT232RL-Reel; PackageVersion: Mar-12; PackageReference: SSOP-28; ComponentLink2Description: Datasheet; DatasheetVersion: ver 2.10, Mar-2012; PackageDescription: 28-Pin Small Outline Package 0.65 mm Pitch; ComponentLink1Description: Manufacturer URL; RevisionNote: DatasheetVersion updated to 2.10 Mar-2012; ComponentLink1URL: http://www.ftdichip.com/; Manufacturer: FTDI; ComponentLink2URL: http://www.ftdichip.com/Support/Documents/DataSheets/ICs/DS_FT232R.pdf
footprint SSOP-28_L (SOP, 28-Leads, Body 10.2x5.3mm, Pitch 0.65mm, IPC High Density)
footprint SSOP-28_N (SOP, 28-Leads, Body 10.2x5.3mm, Pitch 0.65mm, IPC Medium Density)
footprint SSOP-28_M (SOP, 28-Leads, Body 10.2x5.3mm, Pitch 0.65mm, IPC Low Density)
pins: 1 TXD (out), 2 ~{DTR} (out), 3 ~{RTS} (out), 4 VCCIO (power), 5 RXD (in), 6 ~{RI} (in), 7 GND (power), 8 NC, 9 ~{DSR} (in), 10 ~{DCD} (in), 11 ~{CTS} (in), 12 CBUS4 (io), 13 CBUS2 (io), 14 CBUS3 (io), 15 USBDP (io), 16 USBDM (io), 17 3V3OUT (out), 18 GND (power), 19 ~{RESET} (in), 20 VCC (power), 21 GND (power), 22 CBUS1 (io), 23 CBUS0 (io), 24 NC, 25 AGND (power), 26 TEST (in), 27 OSCI (in), 28 OSCO (out)

## Fuse
designator F?
footprint FP_MULTIFUSE (POLYFUSE SMD 1812)
pins: 1, 2

## FUSE_1
designator F?
0686F5000-01; SnapEDA_Link: https://www.snapeda.com/parts/0686F5000-01/Bel%20Fuse/view-part/4615368/?ref=snap; Value: *
footprint *FUSC1608X60N
pins: 1, 2

## Fuse_Fork_Lift_157.5700.5501
designator F?, comment Fuse
LITTELFUSE   157.5700.5501   Automotive Fuse, Fork Lift Truck, 157.5700 Series, 50 A, Fast Acting, 48 V; Body Material: ZINC ALLOY; Current Rating: 50A; Voltage Rating (DC): 48V; Type: Electrical; Voltage Rating: 80V; Supplier 1: Digi-Key; Manufacturer: Littelfuse; Manufacturer Part Number: 157.5700.5501; RoHS: Yes; Category: Fuses; Stock 1: 20; Pricing 1: 1=1,98000, 5=1,89000, 10=1,79600, 50=1,44900, 100=1,22850, 250=1,19700, 500=1,00800, 1000=0,89775, 5000=0,83790 (USD); Mount: Bolt; Min Operating Temperature: -40°C; Max Operating Temperature: 125°C; Fuse Current: 50A; Packaging: Bulk; Series: -; Termination: Lug; Length: 82mm; Width: 20mm; Height: 0.03inch; REACH SVHC: Unknown; RoHS Compliant: Yes; ComponentLink1URL: https://datasheet.ciiva.com/1729/68907-1729142.pdf?src-supplier=Newark; ComponentLink1Description: https://datasheet.ciiva.com/1729/68907-1729142.pdf?src-supplier=Newark; ComponentLink2URL: https://datasheet.ciiva.com/1547/68907-1547992.pdf?src-supplier=Element14; ComponentLink2Description: https://datasheet.ciiva.com/1547/68907-1547992.pdf?src-supplier=Element14
pins: 1, 2

## GATE-CMP-0063-00553-3
designator U?, comment GATE-Driver
3A High Voltage High-Side and Low-Side Gate Driver, 8-pin Narrow SOIC, Pb-Free / LM5100AMX/NOPB; Manufacturer: Texas Instruments; PowerWise: N; PackageTopMarking: NSZXTT*L5100*AM; CompType: MiscPower; RoHS: Y; PinCount: 8; PackageDescription: SOIC Narrow, 4.9 x 3.9 x 1.45mm, 8 Lead, 1.27mm Pitch; Code_JEDEC: MS-012-AA; PackageReference: D0008A; Code_IPC: SOIC127P600-8; ComponentLink1Description: Datasheet URL; ComponentLink1URL: http://www.ti.com/general/docs/lit/getliterature.tsp?genericPartNumber=LM5100A&fileType=pdf
footprint D0008A_N (SOIC, 8-Leads, Body 5x4mm, Pitch 1.27mm, IPC Medium Density)
pins: 1 VDD (power), 2 HB (in), 3 HO (out), 4 HS (in), 5 HI (in), 6 LI (in), 7 VSS (power), 8 LO (out)

## GATE_DRIVER_2EDS8265HXUMA2
designator U?, comment 2EDS8265HXUMA2
2EDS8265HXUMA2 / Gate-Driver 8A; Manufacturer: Exar; Max Supply Voltage: 5.5V; Min Supply Voltage: 3V; Nominal Supply Current: 1mA; Number of Transmitters: 2; Logic Function: Transceiver; Number of Transceivers: 1; Propagation Delay: 0.15us; Number of I/Os: 4; Max Power Dissipation: 1.26W; Supplier 1: Allied Electronics; Manufacturer Part Number: 2EDS8265HXUMA2; RoHS: Yes; Category: RS-232 / RS-422 / RS-485 Interface ICs; Case/Package: SOIC W; Number of Pins: 16; Min Operating Temperature: 0°C; Max Operating Temperature: 70°C; Package Quantity: 41; Packaging: Rail/Tube; Series: -; Supply Current: 1mA; Number of Receivers: 2; Length: 10.3mm; Width: 7.5mm; Height: 2.55mm; Radiation Hardening: No; Lead Free: Lead Free; ComponentLink1URL: https://datasheet.ciiva.com/22828/0900766b81141d49-22828237.pdf?src-supplier=RSComponents; ComponentLink1Description: https://datasheet.ciiva.com/22828/0900766b81141d49-22828237.pdf?src-supplier=RSComponents; ComponentLink2URL: https://datasheet.ciiva.com/1715/sp3222eb-sp3232eb-103-081414-1715199.pdf?src-supplier=Digi-Key; ComponentLink2Description: https://datasheet.ciiva.com/1715/sp3222eb-sp3232eb-103-081414-1715199.pdf?src-supplier=Digi-Key; ComponentLink3URL: https://datasheet.ciiva.com/16380/sp3232ebca-l-16380121.pdf?src-supplier=Future+Electronics; ComponentLink3Description: https://datasheet.ciiva.com/16380/sp3232ebca-l-16380121.pdf?src-supplier=Future+Electronics; ComponentLink4URL: https://datasheet.ciiva.com/15208/getdatasheetpartid-558353-15208838.pdf?src-supplier=Verical; ComponentLink4Description: https://datasheet.ciiva.com/15208/getdatasheetpartid-558353-15208838.pdf?src-supplier=Verical; Number of Drivers: 2
footprint EXAR-WSOIC-16_N (SOIC, 16-Leads, Body 10.30x7.50mm, Pitch 1.27mm, IPC Medium Density)
pins: 1 INA, 2 INB, 3 VDDI, 4 GNDI, 5 DISABLE, 6 NC, 7 NC, 8 SLDON, 9 GNDB, 10 OUTB, 11 VDDB, 12 NC, 13 NC, 14 GNDA, 15 OUTA, 16 VDDA

## Hall-Sensor
designator H?
footprint *SOIC127P600X162-8N
pins: 1 IP+, 2 IP+, 3 IP-, 4 IP-, 5 GND, 6 Filter, 7 VIOUT, 8 VCC

## IND
designator L?, comment 33uH
Inductor; Value: 33uH
footprint FP_IND_MURATA3131 (Murata Chip Inductor LQH88P Series (3131 Size))
pins: 1, 2

## Inductor_B82479A1473M000
designator L?, comment 47 uH/2.6 A
Inductor Power Wirewound 47uH 20% 100KHz Ferrite 2.6A 87mOhm DCR Automotive T/R; Manufacturer: TDK EPCOS; Manufacturer Part Number: B82479A1473M000; Saturation Current: 4.5A; Shielding: Unshielded; DC Resistance (DCR): 87mR; Inductor Type: POWER INDUCTOR; Supplier 1: Farnell; RoHS: Yes; Category: Fixed Inductors; Stock 1: 25; Mount: Surface Mount; Case/Package: SMD/SMT; Number of Pins: 2; Core Material: Ferrite; Weight: 0.105822oz; Min Operating Temperature: -55°C; Max Operating Temperature: 150°C; Package Quantity: 250; Current Rating: 2.6A; Tolerance: 20%; Packaging: Tape and Reel; Inductance Tolerance: 20%; Self Resonant Frequency: 100kHz; Inductance: 47uH; Test Frequency: 100kHz; Max DC Current: 2.6A; Termination: SMD/SMT; RMS Current (Irms): 2.6A; DC Current: 2.6A; Series: B82479A1; Length: 18.54mm; Width: 0.6inch; Height: 7.11mm; Depth: 15.24mm; REACH SVHC: No SVHC; Military Standard: Not; Lead Free: Lead Free; RoHS Compliant: Yes; ComponentLink1URL: https://datasheet.ciiva.com/6692/b82479a1-6692885.pdf?src-supplier=Digi-Key; ComponentLink1Description: https://datasheet.ciiva.com/6692/b82479a1-6692885.pdf?src-supplier=Digi-Key; ComponentLink2URL: https://datasheet.ciiva.com/22683/1899175-22683671.pdf?src-supplier=Element14; ComponentLink2Description: https://datasheet.ciiva.com/22683/1899175-22683671.pdf?src-supplier=Element14; ComponentLink3URL: https://datasheet.ciiva.com/22683/1899175-22683672.pdf?src-supplier=Element14; ComponentLink3Description: https://datasheet.ciiva.com/22683/1899175-22683672.pdf?src-supplier=Element14; ComponentLink4URL: https://datasheet.ciiva.com/28652/b82479a1-28652056.pdf?src-supplier=Element14; ComponentLink4Description: https://datasheet.ciiva.com/28652/b82479a1-28652056.pdf?src-supplier=Element14
pins: 1 In, 2 Out

## INV-CMP-0859-00252-3
designator U?, comment Inverter
Single Inverter, DCK0005A, LARGE T&R / SN74LVC1G04DCKR; Manufacturer: Texas Instruments; Input Type: CMOS/TTL; Output Drive (IOL/IOH)(Max)(mA): 32/-32; Sub-Family: Inverting Buffer/Driver; VCC(Min)(V): 1.65; Bits(#): 1; Schmitt Trigger: No; Technology Family: LVC; Rating: Catalog; ICC @ Nom Voltage(Max)(mA): 0.01; tpd @ Nom Voltage(Max)(ns): 7.5,5.2,4.2,3.7; Voltage(Nom)(V): 1.8,2.5,3.3,5; F @ Nom Voltage(Max)(Mhz): 150; Output Type: CMOS; VCC(Max)(V): 5.5; Logic: Inverting; PackageReference: DCK0005A; Generic Part Number: SN74LVC1G04; Operating Temperature Range(C): -40 to 125,-40 to 85; DatasheetVersion: SCES214AD; 3-State Output: No
footprint DCK0005A_N (SOT23, 5-Leads, Body 2.15x1.4mm, Pitch 0.65mm, IPC Medium Density)
part A pins: 2 A (in) "Input A", 4 Y (out) "Output Y"
part B pins: 1 NC "Ground", 3 GND (power) "Ground Pin", 5 VCC (power) "Power Pin"

## IRF540
designator MOS?
RoHS Compliant | Low RDS_on_ | Industry-leading quality | Dynamic dv/dt Rating | Fast Switching | Fully Avalanche Rated | 175C Operating Temperature; MP: IRF540NPBF; MF: Infineon; Value: *; Package: TO-220 Infineon; Price: None; Availability: Unavailable; SnapEDA_Link: https://www.snapeda.com/parts/IRF540NPBF/Infineon%20Technologies/view-part/1644188/?ref=snap
footprint D2PACK
pins: 1 G, 2 D, 3 S